# Altium schematic symbol library W25Q80.SchLib: 1 symbol
Pins are listed as number, name and electrical type; pins without a type are passive.

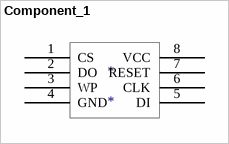
[diagram p0: symbol Component_1]

## Component_1
designator *
footprint 8S2_L (8-Pin Small Outline Package 1.27 mm Pitch, IPC High Density)
footprint QFN127P500X600X80_HS-9N (QFN, 8-Leads, Body 5.00x6.00mm, Pitch 1.27mm, Thermal Pad 2.30x4.30mm, IPC Medium Density)
pins: 1 CS, 2 DO, 3 WP, 4 GND, 5 DI, 6 CLK, 7 RESET, 8 VCC